# Altium footprint library RN4871.PcbLib: 1 footprints
Each footprint in its own frame and in the unit in brackets; x right, y up, seen from the top. Pads: shape width x height; smd on the part's side, far side on the other; paste and mask are expansions set on the pad; w line width, h text height; cw(c..) or ccw(c..) is an arc to the next point about the centre after c.
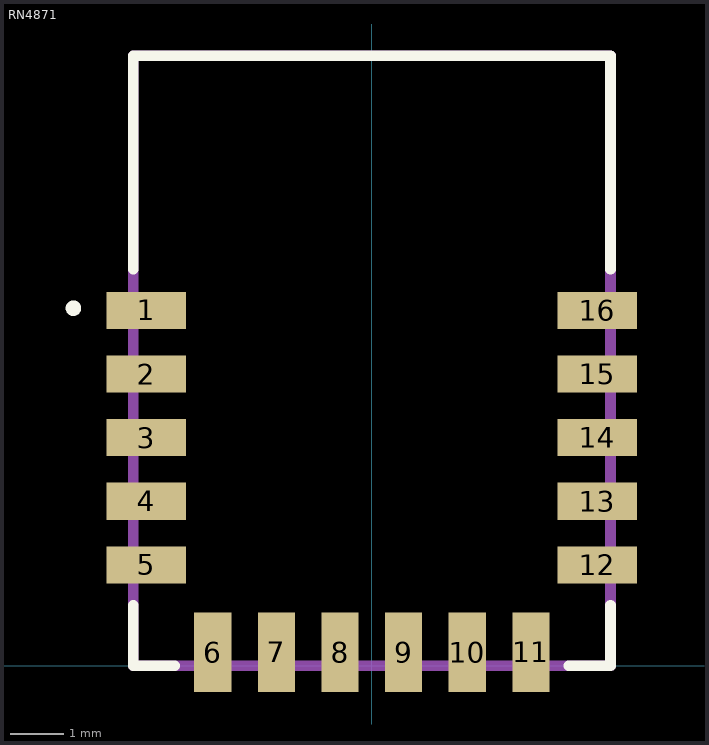
[diagram p0: the footprint, top view; thin cyan lines are the x and y axes]

## RN4871 [mm]
pads (16):
  rect 1.5x0.7 smd: 1(-4.25,6.7) 2(-4.25,5.5) 3(-4.25,4.3) 4(-4.25,3.1) 5(-4.25,1.9) 12(4.25,1.9) 13(4.25,3.1) 14(4.25,4.3) 15(4.25,5.5) 16(4.25,6.7)
  rect 0.7x1.5 smd: 6(-3,0.25) 7(-1.8,0.25) 8(-0.6,0.25) 9(0.6,0.25) 10(1.8,0.25) 11(3,0.25)
L26-Silk Screen Top (Multiple PADS layers...):
  circle w0.2: c-5.627,6.741 r0.045
  lines w0.2: -4.5,1.139 -4.5,0 -3.715,0 ; -4.5,7.475 -4.5,11.5 4.5,11.5 4.5,7.475 ; 3.715,0 4.5,0 4.5,1.139
L15 (Multiple PADS layers...):
  lines w0.2: -4.5,0 4.5,0 4.5,11.5 -4.5,11.5 -4.5,0